# EAGLE library part MINI-USB_SHIELD (library dxwifi)
USB Mini B MUSBB15134
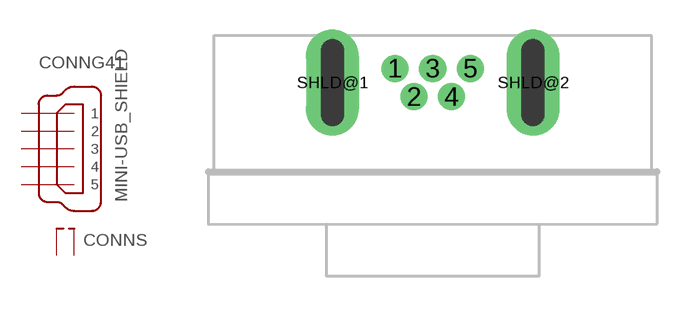
[diagram p0: symbol with the pads of RUGGEDUSB; footprint RUGGEDUSB]

Designator prefix CONN; gates G41=MINI-USB-5 S=SHIELD2

## MINI-USB_SHIELD  [RUGGEDUSB]
1  G41:1  pas
2  G41:2  pas
3  G41:3  pas
4  G41:4  pas
5  G41:5  pas
SHLD@1  S:S1  pas
SHLD@2  S:S2  pas

## Footprint RUGGEDUSB (pad centres in mm)
drill 0.508 pad 1.143: 1 -1.6,0.6; 2 -0.8,-0.6; 3 0,0.6; 4 0.8,-0.6; 5 1.6,0.6
drill 1 pad 2.25 long: SHLD@1 -4.25,0; SHLD@2 4.25,0